# EAGLE library part 74HC4067 (library UNIT_Biblioteca_Modulos)
74HC4067 Source: Datasheet <https://uelectronics.com/wp-content/uploads/2020/11/74HC4067.pdf> SKU: Propietario: UNIT Electronics Desarrollador: Angel Velazquez
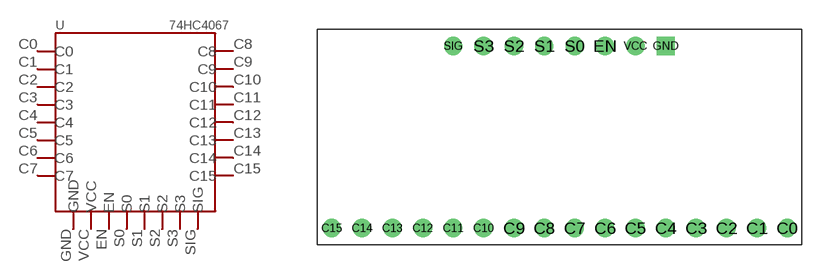
[diagram p21: symbol with the pads of 74HC4067; footprint 74HC4067]

Designator prefix U

## 74HC4067 (CLASS: Modules; DESCRIPTION: 74HC4067 Multiplexor Análogo 16 Canales; MANUFACTURER_NAME: Texas Instruments; MANUFACTURER_PART_NUMBER: 74HC4067; VENDOR_PART_NUMBER: AR1722; VENDOR_PRICE-STOCK: https://uelectronics.com/producto/74hc4067-multiplexor-analogico-digital-16-canales/)  [74HC4067]
C0  C0
C1  C1
C2  C2
C3  C3
C4  C4
C5  C5
C6  C6
C7  C7
C8  C8
C9  C9
C10  C10
C11  C11
C12  C12
C13  C13
C14  C14
C15  C15
EN  EN
GND  GND
S0  S0
S1  S1
S2  S2
S3  S3
SIG  SIG
VCC  VCC

## Footprint 74HC4067 (pad centres in mm)
drill 1.02: C0 19.05,-7.62; C1 16.51,-7.62; C2 13.97,-7.62; C3 11.43,-7.62; C4 8.89,-7.62; C5 6.35,-7.62; C6 3.81,-7.62; C7 1.27,-7.62; C8 -1.27,-7.62; C9 -3.81,-7.62; C10 -6.35,-7.62; C11 -8.89,-7.62; C12 -11.43,-7.62; C13 -13.97,-7.62; C14 -16.51,-7.62; C15 -19.05,-7.62; EN 3.81,7.62; S0 1.27,7.62; S1 -1.27,7.62; S2 -3.81,7.62; S3 -6.35,7.62; SIG -8.89,7.62; VCC 6.35,7.62
drill 1.02 square: GND 8.89,7.62